# Altium footprint library CN_IDC40_918540X904.PcbLib: 1 footprints
Each footprint in its own frame and in the unit in brackets; x right, y up, seen from the top. Pads: shape width x height; smd on the part's side, far side on the other; paste and mask are expansions set on the pad; w line width, h text height; cw(c..) or ccw(c..) is an arc to the next point about the centre after c.
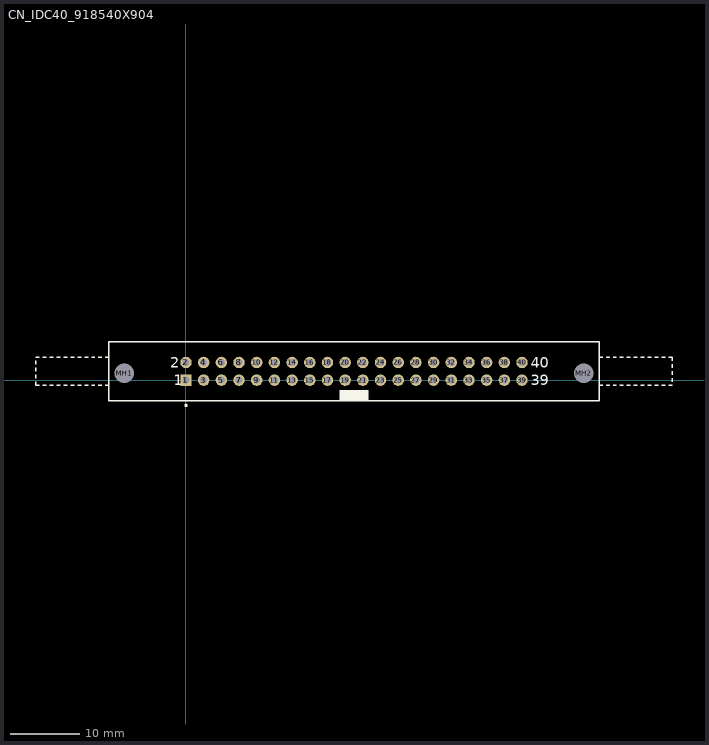
[diagram p0: the footprint, top view; thin cyan lines are the x and y axes]

## CN_IDC40_918540X904 [mm] "Connector; IDC, Thru-Hole; 40 Position; Vertical; Pitch 2.54 mm; Body 70.40 x 8.5 x 25.75 mm (LxWxH), Locking levers"
height 25.75
pads (42):
  rect 1.65x1.65 hole 1: 1(0,0)
  round 1.65 hole 1: 2(0,2.54) 3(2.54,0) 4(2.54,2.54) 5(5.08,0) 6(5.08,2.54) 7(7.62,0) 8(7.62,2.54) 9(10.16,0) 10(10.16,2.54) 11(12.7,0) 12(12.7,2.54) 13(15.24,0) 14(15.24,2.54) 15(17.78,0) 16(17.78,2.54) 17(20.32,0) 18(20.32,2.54) 19(22.86,0) 20(22.86,2.54) 21(25.4,0) 22(25.4,2.54) 23(27.94,0) 24(27.94,2.54) 25(30.48,0) 26(30.48,2.54) 27(33.02,0) 28(33.02,2.54) 29(35.56,0) 30(35.56,2.54) 31(38.1,0) 32(38.1,2.54) 33(40.64,0) 34(40.64,2.54) 35(43.18,0) 36(43.18,2.54) 37(45.72,0) 38(45.72,2.54) 39(48.26,0) 40(48.26,2.54)
  round 2.5 hole 2.8 unplated: MH1(-8.89,1.02) MH2(57.15,1.02)
Top Overlay:
  circle w0.25: c0,-3.63 r0.125
  rectangle: 22.08,-2.98 26.18,-1.43
  lines w0.2: -21.57,-0.23 -21.57,-0.73 -21.07,-0.73 ; -21.57,0.27 -21.57,0.77 ; -21.57,1.27 -21.57,1.77 ; -21.57,2.27 -21.57,2.77 ; -21.57,3.27 -21.07,3.27 ; -20.57,-0.73 -20.07,-0.73 ; -20.57,3.27 -20.07,3.27 ; -19.57,-0.73 -19.07,-0.73 ; -19.57,3.27 -19.07,3.27 ; -18.57,-0.73 -18.07,-0.73 ; -18.57,3.27 -18.07,3.27 ; -17.57,-0.73 -17.07,-0.73 ; -17.57,3.27 -17.07,3.27 ; -16.57,-0.73 -16.07,-0.73 ; -16.57,3.27 -16.07,3.27 ; -15.57,-0.73 -15.07,-0.73 ; -15.57,3.27 -15.07,3.27 ; -14.57,-0.73 -14.07,-0.73 ; -14.57,3.27 -14.07,3.27 ; -13.57,-0.73 -13.07,-0.73 ; -13.57,3.27 -13.07,3.27 ; -12.57,-0.73 -12.07,-0.73 ; -12.57,3.27 -12.07,3.27 ; -11.57,-0.73 -11.07,-0.73 ; -11.57,3.27 -11.07,3.27 ; 59.33,-0.73 59.83,-0.73 ; 59.33,3.27 59.83,3.27 ; 60.33,-0.73 60.83,-0.73 ; 60.33,3.27 60.83,3.27 ; 61.33,-0.73 61.83,-0.73 ; 61.33,3.27 61.83,3.27 ; 62.33,-0.73 62.83,-0.73 ; 62.33,3.27 62.83,3.27 ; 63.33,-0.73 63.83,-0.73 ; 63.33,3.27 63.83,3.27 ; 64.33,-0.73 64.83,-0.73 ; 64.33,3.27 64.83,3.27 ; 65.33,-0.73 65.83,-0.73 ; 65.33,3.27 65.83,3.27 ; 66.33,-0.73 66.83,-0.73 ; 66.33,3.27 66.83,3.27 ; 67.33,-0.73 67.83,-0.73 ; 67.33,3.27 67.83,3.27 ; 68.33,-0.73 68.83,-0.73 ; 68.33,3.27 68.83,3.27 ; 69.33,-0.73 69.83,-0.73 ; 69.33,3.27 69.83,3.27 69.83,2.77 ; 69.83,-0.23 69.83,0.27 ; 69.83,0.77 69.83,1.27 ; 69.83,1.77 69.83,2.27 ; -11.07,-2.98 59.33,-2.98 59.33,5.52 -11.07,5.52 -11.07,-2.98
  text "39" at 49.54,-0.75 h1.5
  text "40" at 49.54,1.79 h1.5
  text "1" at -1.78,-0.75 h1.5
  text "2" at -2.28,1.79 h1.5
3D body: height 25.75, standoff -3.2, extent -11.07,-2.98 59.33,5.52